# Altium schematic symbol library SCH - PASSIVES - RESISTOR.SCHLIB: 1 symbol
Pins are listed as number, name and electrical type; pins without a type are passive.

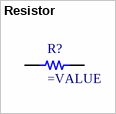
[diagram p0: symbol Resistor]

## Resistor
designator R?
SMT Resistor
footprint RES 0201/0603 (Chip Resistor, 2-Leads, Body 0.60x0.30mm, IPC Medium Density)
footprint RES 0402/1005 (Chip Resistor, 2-Leads, Body 1.0x0.5mm, IPC Medium Density)
footprint STACKPOLE CSRN2512 (Chip Resistor, 2-Leads, Body 6.40x3.20mm, IPC Medium Density)
footprint RES 1206/3216 (Chip Resistor, 2-Leads, Body 3.13x1.55mm, IPC Medium Density)
pins: 1, 2